# EAGLE library part SOIC20-ISP (library SmallRoomLabs)
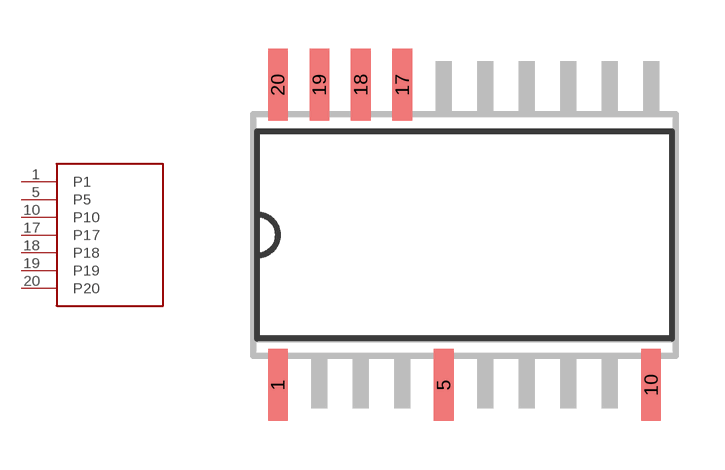
[diagram p12: symbol with the pads of SOIC20W-ISP; footprint SOIC20W-ISP]

Designator prefix -

## SOIC20-ISP  [SOIC20W-ISP]
1  P1
5  P5
10  P10
17  P17
18  P18
19  P19
20  P20

## Footprint SOIC20W-ISP (pad centres in mm)
smd 0.6 x 2.2: 1 -5.715,-4.537; 5 -0.635,-4.537; 10 5.715,-4.537; 17 -1.905,4.663; 18 -3.175,4.663; 19 -4.445,4.663; 20 -5.715,4.663